# Altium footprint library QUTMS_PeripheralConnectivity.PcbLib: 2 footprints
Each footprint in its own frame and in the unit in brackets; x right, y up, seen from the top. Pads: shape width x height; smd on the part's side, far side on the other; paste and mask are expansions set on the pad; w line width, h text height; cw(c..) or ccw(c..) is an arc to the next point about the centre after c.
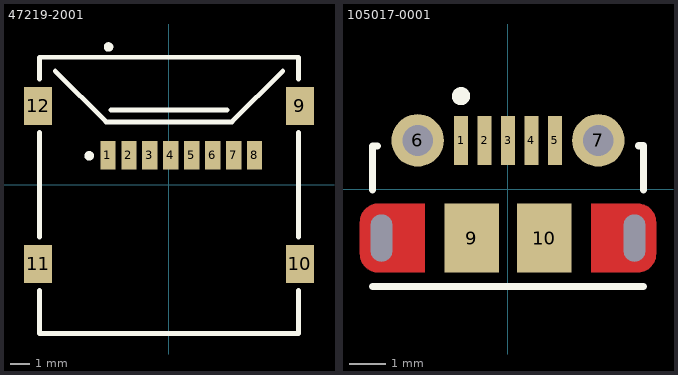
[diagram p0: the footprints below, top view; thin cyan lines are the x and y axes]

## 47219-2001 [mm]
pads (12):
  rect 0.8x1.5 smd: 1(-3.205,1.55) 2(-2.105,1.55) 3(-1.005,1.55) 4(0.095,1.55) 5(1.195,1.55) 6(2.295,1.55) 7(3.395,1.55) 8(4.495,1.55)
  rect 1.45x2 smd: 9(6.875,4.15) 10(6.875,-4.15) 11(-6.875,-4.15) 12(-6.875,4.15)
Top Overlay:
  circle w0.25: c-4.191,1.524 r0.125
  circle w0.25: c-3.175,7.239 r0.125
  lines w0.254: -6.8,-5.55 -6.8,-7.8 6.8,-7.8 6.8,-5.55 ; -6.8,-2.75 -6.8,2.75 ; -6.8,5.55 -6.8,6.7 6.8,6.7 6.8,5.55 ; -5.969,5.969 -3.302,3.302 3.302,3.302 5.969,5.969 ; -3.048,3.937 3.048,3.937 ; 6.8,-2.75 6.8,2.75
3D body "472192001.stp": height 1.91, standoff 0.02, extent -7.3,-7.793 7.3,6.707

## 105017-0001 [mm]
pads (11):
  rect 0.4x1.35 smd: 1(-1.3,1.35) 2(-0.65,1.35) 3(0,1.35) 4(0.65,1.35) 5(1.3,1.35)
  round 1.45 hole 0.85: 6(-2.5,1.35) 7(2.5,1.35)
  rrect50% 0x0 hole 0.6 slot 1.3 at 90 deg: 8(-3.5,-1.35) 11(3.5,-1.35)
  rect 1.5x1.9 smd: 9(-1,-1.35) 10(1,-1.35)
Top Layer:
  circle w0.5: c-3.6,-1.8 r0.25
  circle w0.5: c-3.6,-0.9 r0.25
  circle w0.5: c3.6,-1.8 r0.25
  circle w0.5: c3.6,-0.9 r0.25
  region: -3.6,-1.8 -3.6,-0.9 -4.1,-0.9 -4.1,-1.8
  region: 3.6,-0.9 3.6,-1.8 4.1,-1.8 4.1,-0.9
  region: 2.3,-0.4 2.3,-2.3 3.6,-2.3 3.6,-0.4
  region: -2.3,-2.3 -2.3,-0.4 -3.6,-0.4 -3.6,-2.3
Top Overlay:
  circle w0.25: c-1.3,2.575 r0.125
  lines w0.2: -3.745,-2.688 3.745,-2.688 ; -3.745,-0.012 -3.745,1.195 -3.614,1.195 ; 3.615,1.2 3.745,1.2 3.745,-0.012
3D body "1050170001.stp": height 2.67, standoff -0.63, extent -4.1,-3.9 4.1,1.5